# Altium schematic symbol library MMA8453Q.SchLib: 1 symbol
Pins are listed as number, name and electrical type; pins without a type are passive.

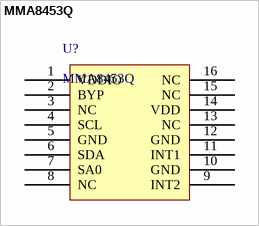
[diagram p0: symbol MMA8453Q]

## MMA8453Q
designator U?
pins: 1 VDDIO, 2 BYP, 3 NC, 4 SCL, 5 GND, 6 SDA, 7 SA0, 8 NC, 9 INT2, 10 GND, 11 INT1, 12 GND, 13 NC, 14 VDD, 15 NC, 16 NC